# EAGLE library part RJHSE-5085 (library amp-rj45-tap-up-with-leds)
Amphenol RJHSE-5085 - RJ45 with 2 leds and tap-up.
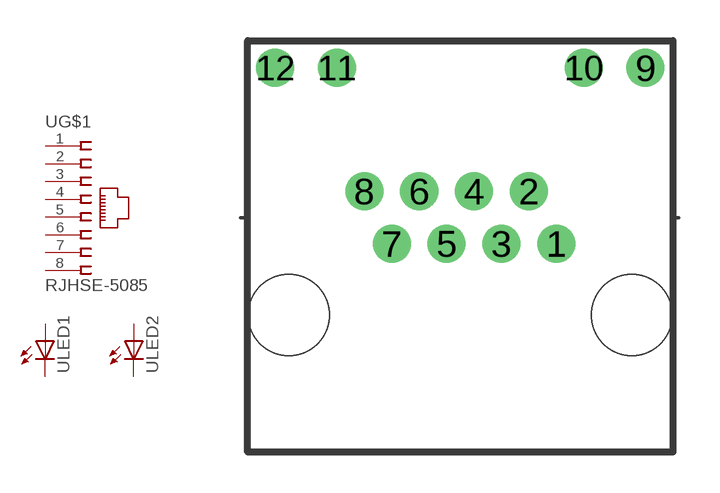
[diagram p2: symbol with the pads of RJ45; footprint RJ45]

Designator prefix -; gates G$1=JACK8 LED1=LED LED2=LED

## RJHSE-5085  [RJ45]
1  G$1:1  pas
2  G$1:2  pas
3  G$1:3  pas
4  G$1:4  pas
5  G$1:5  pas
6  G$1:6  pas
7  G$1:7  pas
8  G$1:8  pas
9  LED1:C  pas
10  LED1:A  pas
11  LED2:C  pas
12  LED2:A  pas

## Footprint RJ45 (pad centres in mm)
drill 0.9 pad 1.27 round: 1 9.906,2.64; 2 8.89,4.58; 3 7.874,2.64; 4 6.858,4.58; 5 5.842,2.64; 6 4.826,4.58; 7 3.81,2.64; 8 2.794,4.58; 9 13.208,9.144; 10 10.922,9.144; 11 1.778,9.144; 12 -0.508,9.144
hole 3 at 0,0
hole 3 at 12.7,0